# Altium schematic symbol library Schlib1.SchLib: 50 symbols (part 2 of 2)
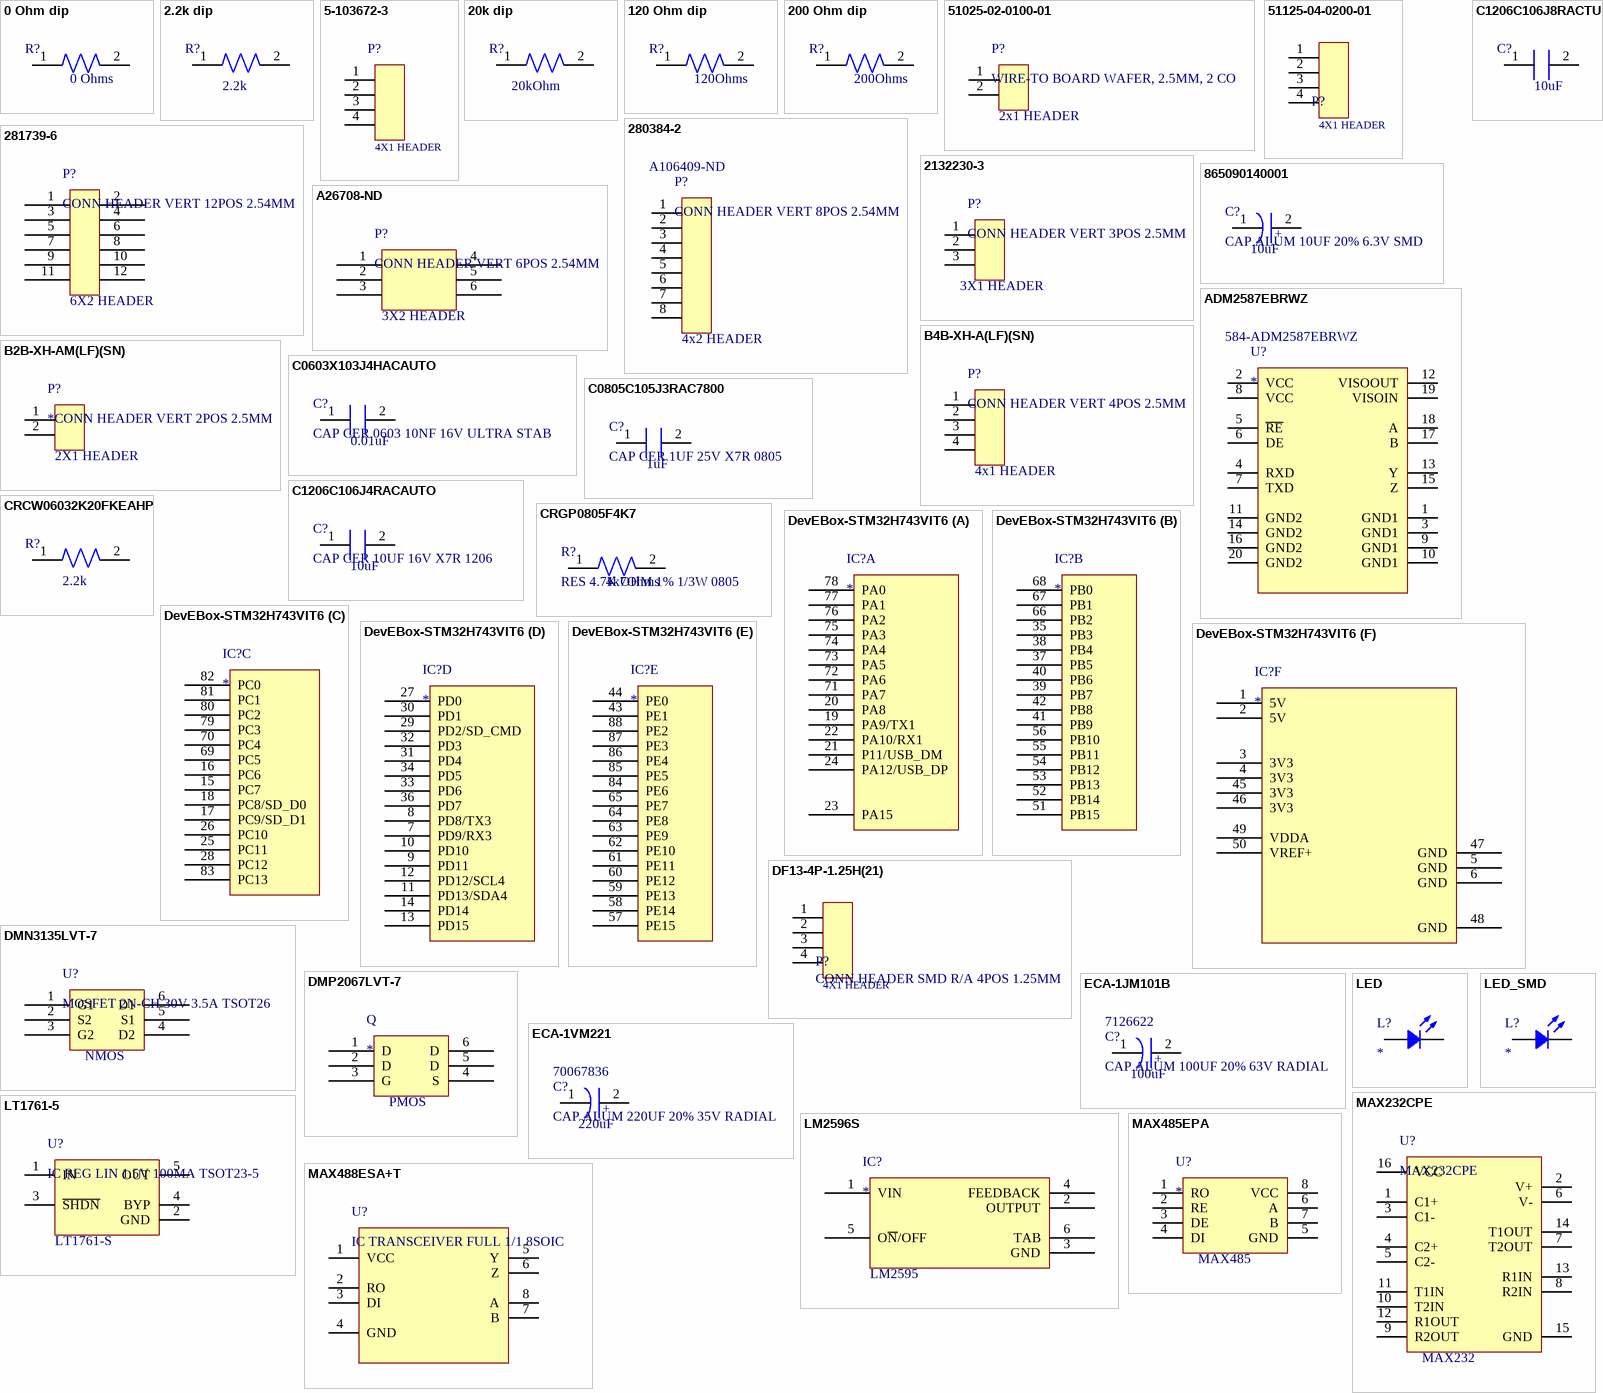
[diagram p3: symbols 0 Ohm dip to MAX488ESA+T]

## ECA-1VM221
designator C?, comment CAP ALUM 220UF 20% 35V RADIAL  Supplier Part Number 2: 70067836
Capacitor; Aluminum Electrolytic; Cap 220uF; Vol-Rtg 35V; Radial; nHg; Manufacturer: Panasonic; Manufacturer Part Number: ECA-1VM220; Dielectric Material: Aluminium; Capacitance: 22uF; Ripple Current: 95mA; Life (Hours): 2000Hour; Lead/Base Style: Straight; Leakage Current: 3uA; Dissipation Factor: 0.14%; Ripple Current (AC): 350mA; Polarity: Polar; Lead Diameter: 0.6mm; Supplier 1: Farnell; RoHS: Yes; Category: Aluminum Electrolytic Capacitors; Stock 1: 5363; Pricing 1: 1=0,37900, 5=0,31800, 10=0,25700, 25=0,25200 (EUR); Mount: Through Hole,PCB; Case/Package: Radial; Contact Plating: Tin; Min Operating Temperature: -40°C; Max Operating Temperature: 85°C; Tolerance: 20%; Termination: Radial; Packaging: Bulk; Package Quantity: 200; Voltage Rating: 35V; Voltage Rating (DC): 35V; Voltage: 35V; Series: M; Construction: RADIAL; Diameter: 5mm; Length: 11mm; Height: 11mm; Lead Pitch: 2mm; Height - Seated (Max): 0.472inch; Radiation Hardening: No; REACH SVHC: No SVHC; Lead Free: Lead Free; RoHS Compliant: Yes; ComponentLink1URL: https://datasheet.ciiva.com/11777/0900766b800274c2-11777874.pdf?src-supplier=RSComponents; ComponentLink1Description: https://datasheet.ciiva.com/11777/0900766b800274c2-11777874.pdf?src-supplier=RSComponents; ComponentLink2URL: https://datasheet.ciiva.com/15197/getdatasheetpartid-470870-15197994.pdf?src-supplier=Verical; ComponentLink2Description: https://datasheet.ciiva.com/15197/getdatasheetpartid-470870-15197994.pdf?src-supplier=Verical; ComponentLink3URL: https://datasheet.ciiva.com/14590/70067785-14590047.pdf?src-supplier=Allied+Electronics; ComponentLink3Description: https://datasheet.ciiva.com/14590/70067785-14590047.pdf?src-supplier=Allied+Electronics; ComponentLink4URL: https://datasheet.ciiva.com/2983/aba0000ce12-2983863.pdf?src-supplier=Avnet; ComponentLink4Description: https://datasheet.ciiva.com/2983/aba0000ce12-2983863.pdf?src-supplier=Avnet; ComponentLink5URL: https://datasheet.ciiva.com/15925/aba0000ce12-15925512.pdf?src-supplier=Onlinecomponents.com; ComponentLink5Description: https://datasheet.ciiva.com/15925/aba0000ce12-15925512.pdf?src-supplier=Onlinecomponents.com; ComponentLink6URL: https://datasheet.ciiva.com/30209/49aba0000ce12-30209319.pdf?src-supplier=Onlinecomponents.com; ComponentLink6Description: https://datasheet.ciiva.com/30209/49aba0000ce12-30209319.pdf?src-supplier=Onlinecomponents.com; ComponentLink7URL: https://datasheet.ciiva.com/17356/aba0000ce12-17356348.pdf?src-supplier=Avnet+Europe; ComponentLink7Description: https://datasheet.ciiva.com/17356/aba0000ce12-17356348.pdf?src-supplier=Avnet+Europe; ComponentLink8URL: https://datasheet.ciiva.com/91/eca-xxmspec-91375.pdf?src-supplier=Digi-Key; ComponentLink8Description: https://datasheet.ciiva.com/91/eca-xxmspec-91375.pdf?src-supplier=Digi-Key; Supplier Part Number 1: 9693645; Supplier 2: Allied Electronics; Stock 2: 19; Pricing 2: 1=0,16400 (USD); Number of Pins: 2; ComponentLink9URL: https://datasheet.ciiva.com/11777/0900766b800274c2-11777872.pdf?src-supplier=RSComponents; ComponentLink9Description: https://datasheet.ciiva.com/11777/0900766b800274c2-11777872.pdf?src-supplier=RSComponents; ComponentLink10URL: https://datasheet.ciiva.com/26341/441851-da-01-en-elko-eca1vm221-m-r-220myf-35v-85c-26341906.pdf?src-supplier=Conrad; ComponentLink10Description: https://datasheet.ciiva.com/26341/441851-da-01-en-elko-eca1vm221-m-r-220myf-35v-85c-26341906.pdf?src-supplier=Conrad; ComponentLink11URL: https://datasheet.ciiva.com/24023/aba0000ce12-465472-24023260.pdf?src-supplier=Mouser; ComponentLink11Description: https://datasheet.ciiva.com/24023/aba0000ce12-465472-24023260.pdf?src-supplier=Mouser; ComponentLink12URL: https://datasheet.ciiva.com/14590/70067785-14590042.pdf?src-supplier=Allied+Electronics; ComponentLink12Description: https://datasheet.ciiva.com/14590/70067785-14590042.pdf?src-supplier=Allied+Electronics; ComponentLink13URL: https://datasheet.ciiva.com/14601/70067785-14601242.pdf?src-supplier=Allied+Electronics; ComponentLink13Description: https://datasheet.ciiva.com/14601/70067785-14601242.pdf?src-supplier=Allied+Electronics; ComponentLink14URL: https://datasheet.ciiva.com/43485/aba0000ce12-43485334.pdf?src-supplier=Farnell; ComponentLink14Description: https://datasheet.ciiva.com/43485/aba0000ce12-43485334.pdf?src-supplier=Farnell; ComponentLink15URL: https://datasheet.ciiva.com/46387/1907780-46387398.pdf?src-supplier=Element14; ComponentLink15Description: https://datasheet.ciiva.com/46387/1907780-46387398.pdf?src-supplier=Element14; ComponentLink16URL: https://datasheet.ciiva.com/2983/aba0000ce12-2983864.pdf?src-supplier=Avnet; ComponentLink16Description: https://datasheet.ciiva.com/2983/aba0000ce12-2983864.pdf?src-supplier=Avnet; ComponentLink17URL: https://datasheet.ciiva.com/16426/aba0000ce12-16426383.pdf?src-supplier=Future+Electronics; ComponentLink17Description: https://datasheet.ciiva.com/16426/aba0000ce12-16426383.pdf?src-supplier=Future+Electronics; ComponentLink18URL: https://datasheet.ciiva.com/15166/getdatasheetpartid-178468-15166214.pdf?src-supplier=Verical; ComponentLink18Description: https://datasheet.ciiva.com/15166/getdatasheetpartid-178468-15166214.pdf?src-supplier=Verical; ComponentLink19URL: https://datasheet.ciiva.com/17356/aba0000ce12-17356350.pdf?src-supplier=Avnet+Europe; ComponentLink19Description: https://datasheet.ciiva.com/17356/aba0000ce12-17356350.pdf?src-supplier=Avnet+Europe
footprint ECA-1VM221
pins: 1, 2
text: +; 220uF

## LED
designator L?
footprint LED
pins: 1, 2

## LED_SMD
designator L?
footprint LED_SMD
pins: 1, 2

## LM2596S
designator IC?
SIMPLE SWITCHER® 4.5V to 40V, 3A Low Component Count Step-Down Regulator 5-DDPAK/TO-263; Manufacturer: TI National Semiconductor; Manufacturer Part Number: LM2596S-5.0/NOPB; Output Voltage: 5V; Switching Frequency: 173kHz; Number of Outputs: 1; Quiescent Current: 5mA; Output Type: Fixed; Efficiency: 80%; Supplier 1: Mouser; RoHS: Yes; Category: Power Supply Modules; Stock 1: 36; Pricing 1: 1=7,15000, 10=6,46000, 50=6,16000, 100=5,34000, 1000=5,34000, 10000=5,34000 (USD); Mount: Surface Mount; Case/Package: TO-263; Number of Pins: 5; Weight: 0.25lb; Contact Plating: Tin,Matte; Min Operating Temperature: -40°C; Max Operating Temperature: 125°C; Output Current: 3A; Packaging: Rail/Tube; Min Input Voltage: 4.5V; Max Output Current: 3A; Max Input Voltage: 40V; Operating Supply Voltage: 40V; Package Quantity: 45; Series: LM2596; Nominal Output Voltage: 5V; Length: 10.16mm; Width: 8.64mm; Height: 4.57mm; Radiation Hardening: No; Lead Free: Contains Lead; REACH SVHC: No SVHC; Supplier 2: Farnell; Stock 2: 2251; Pricing 2: 1=6,90000, 10=5,63000, 25=5,32000, 50=4,97000, 100=4,62000 (EUR); ComponentLink1Description: Designed By; ComponentLink1URL: Süeda KORKMAZ
footprint LM2596S
pins: 1 VIN, 2 OUTPUT, 3 GND, 4 FEEDBACK, 5 O~{N}/OFF, 6 TAB
text: LM2595

## LT1761-5
designator U?, comment IC REG LIN 1.5V 100MA TSOT23-5
LDO Regulator Pos 1.5V 0.1A 5-Pin TSOT-23 T/R; Manufacturer: Analog Devices / Linear Technology; Manufacturer Part Number: LT1761ES5-1.5#TRMPBF; Max Supply Voltage: 20V; Min Supply Voltage: 2.5V; Dropout Voltage: 300mV; Number of Outputs: 1; Min Input Voltage: 1.8V; Min Current Limit: 110mA; Polarity: Positive; Operating Supply Current: 20uA; Power Supply Rejection Ratio (PSRR): 65dB; Supplier 1: Digi-Key; RoHS: Yes; Category: Voltage Regulators - Linear; Stock 1: 1805; Pricing 1: 1=2,98000, 10=2,67400, 25=2,52800, 100=2,19100, 250=2,07864 (USD); Case/Package: SOT-23-5; Number of Pins: 5; Min Operating Temperature: -40°C; Max Operating Temperature: 125°C; Package Quantity: 1; Output Current: 100mA; Max Output Current: 100mA; Output Voltage: 1.5V; Packaging: Tape and Reel; Max Input Voltage: 20V; Number of Regulators: 1; Max Output Voltage: 1.5V; Termination: SMD/SMT; Series: -; REACH SVHC: No SVHC; Lead Free: Lead Free; RoHS Compliant: Yes; ComponentLink1URL: https://datasheet.ciiva.com/26905/lt1761es5-1-5-trmpbf-26905955.pdf?src-supplier=IIIC; ComponentLink1Description: https://datasheet.ciiva.com/26905/lt1761es5-1-5-trmpbf-26905955.pdf?src-supplier=IIIC; ComponentLink2URL: https://datasheet.ciiva.com/2041/2732-2041159.pdf?src-supplier=Digi-Key; ComponentLink2Description: https://datasheet.ciiva.com/2041/2732-2041159.pdf?src-supplier=Digi-Key; ComponentLink3URL: https://datasheet.ciiva.com/5698/1441932-5698263.pdf?src-supplier=Farnell; ComponentLink3Description: https://datasheet.ciiva.com/5698/1441932-5698263.pdf?src-supplier=Farnell; ComponentLink4URL: https://datasheet.ciiva.com/2041/2732-2041160.pdf?src-supplier=Digi-Key; ComponentLink4Description: https://datasheet.ciiva.com/2041/2732-2041160.pdf?src-supplier=Digi-Key; ComponentLink5URL: https://datasheet.ciiva.com/2041/2732-2041161.pdf?src-supplier=Digi-Key; ComponentLink5Description: https://datasheet.ciiva.com/2041/2732-2041161.pdf?src-supplier=Digi-Key; Supplier Part Number 1: LT1761ES5-1.5#TRMPBFCT-ND
footprint LT1761ES5-1.5#TRMPBF
pins: 1 IN, 2 GND, 3 ~{SHDN}, 4 BYP, 5 OUT
text: LT1761-S

## MAX232CPE
designator U?
MAX232 Series 120 kbps 5.5 V Through Hole RS-232 Transceiver - PDIP-16; Manufacturer: Maxim; Manufacturer Part Number: MAX232CPE+; Propagation Delay: 10us; Number of Transmitters: 2; Operating Supply Voltage: 5V; Min Supply Voltage: 4.5V; Max Supply Voltage: 5.5V; Operating Supply Current: 10mA; Number of Transceivers: 1; Supply Type: Single; Supplier 1: Farnell; RoHS: Yes; Category: RS-232 / RS-422 / RS-485 Interface ICs; Stock 1: 9660; Pricing 1: 1=4,80000, 10=3,86000, 25=3,63000, 50=3,48000, 100=3,32000, 250=3,29000, 500=3,24000 (EUR); Mount: Through Hole; Case/Package: PDIP; Number of Pins: 16; Weight: 0.056438oz; Contact Plating: Tin,Matte; Min Operating Temperature: 0°C; Max Operating Temperature: 70°C; Packaging: Rail/Tube; Package Quantity: 25; Number of Receivers: 2; Data Rate: 120Kbps; Interface: RS-232; Logic Function: Transceiver; Number of Drivers: 2; Type: Integrated Circuit (IC); Series: MAX232; Length: 19.43mm; Width: 7.87mm; Height: 4.45mm; Radiation Hardening: No; REACH SVHC: No SVHC; Lead Free: Lead Free; RoHS Compliant: Yes; ComponentLink1URL: https://datasheet.ciiva.com/22828/0900766b807c18c1-22828294.pdf?src-supplier=RSComponents; ComponentLink1Description: https://datasheet.ciiva.com/22828/0900766b807c18c1-22828294.pdf?src-supplier=RSComponents; ComponentLink2URL: https://datasheet.ciiva.com/29306/170049-da-01-en-ic-max232cpe-dip16-29306280.pdf?src-supplier=Conrad; ComponentLink2Description: https://datasheet.ciiva.com/29306/170049-da-01-en-ic-max232cpe-dip16-29306280.pdf?src-supplier=Conrad; ComponentLink3URL: https://datasheet.ciiva.com/26833/max232cpe-26833420.pdf?src-supplier=IIIC; ComponentLink3Description: https://datasheet.ciiva.com/26833/max232cpe-26833420.pdf?src-supplier=IIIC; ComponentLink4URL: https://datasheet.ciiva.com/26833/max232cpe-26833436.pdf?src-supplier=IIIC; ComponentLink4Description: https://datasheet.ciiva.com/26833/max232cpe-26833436.pdf?src-supplier=IIIC; ComponentLink5URL: https://datasheet.ciiva.com/18410/70157118-18410440.pdf?src-supplier=Allied+Electronics; ComponentLink5Description: https://datasheet.ciiva.com/18410/70157118-18410440.pdf?src-supplier=Allied+Electronics; ComponentLink6URL: https://datasheet.ciiva.com/3028/max220-max249-3028373.pdf?src-supplier=Avnet; ComponentLink6Description: https://datasheet.ciiva.com/3028/max220-max249-3028373.pdf?src-supplier=Avnet
footprint MAX232CPE
pins: 1 C1+, 2 V+, 3 C1-, 4 C2+, 5 C2-, 6 V-, 7 T2OUT, 8 R2IN, 9 R2OUT, 10 T2IN, 11 T1IN, 12 R1OUT, 13 R1IN, 14 T1OUT, 15 GND, 16 VCC

## MAX485EPA
designator U?
Single Transmitter/Receiver RS-422/RS-485 8-Pin PDIP N; Manufacturer: Maxim; Manufacturer Part Number: MAX485EPA+; Number of Transmitters: 1; Operating Supply Voltage: 5V; Logic Function: Transceiver; Data Rate: 2.5Mbps; Operating Supply Current: 500uA; Interface: RS-422,RS-485; Min Supply Voltage: 4.75V; Max Supply Voltage: 5.25V; Simplex/Duplex: Half Duplex; Designed By: Süeda KORKMAZ; Supplier 1: Farnell; RoHS: Yes; Category: RS-232 / RS-422 / RS-485 Interface ICs; Stock 1: 298; Pricing 1: 1=5,00000, 10=4,04000, 25=3,95000, 50=3,86000 (EUR); Mount: Through Hole; Case/Package: PDIP; Number of Pins: 8; Weight: 0.032805oz; Contact Plating: Tin,Matte; Min Operating Temperature: -40°C; Max Operating Temperature: 85°C; Packaging: Rail/Tube; Package Quantity: 50; Number of Receivers: 1; Number of Drivers: 1; Number of Transceivers: 1; Series: -; Length: 9.91mm; Width: 7.87mm; Height: 2.03mm; Radiation Hardening: No; REACH SVHC: Unknown; Lead Free: Lead Free; RoHS Compliant: Yes; ComponentLink1URL: https://datasheet.ciiva.com/30478/0900766b811dea1f-30478293.pdf?src-supplier=RSComponents; ComponentLink1Description: https://datasheet.ciiva.com/30478/0900766b811dea1f-30478293.pdf?src-supplier=RSComponents; ComponentLink2URL: https://datasheet.ciiva.com/29306/170075-da-01-en-ic-max485epa-dip8-29306150.pdf?src-supplier=Conrad; ComponentLink2Description: https://datasheet.ciiva.com/29306/170075-da-01-en-ic-max485epa-dip8-29306150.pdf?src-supplier=Conrad; ComponentLink3URL: https://datasheet.ciiva.com/26835/max485epa-26835690.pdf?src-supplier=IIIC; ComponentLink3Description: https://datasheet.ciiva.com/26835/max485epa-26835690.pdf?src-supplier=IIIC; ComponentLink4URL: https://datasheet.ciiva.com/3029/max1487-max491-3029663.pdf?src-supplier=Avnet; ComponentLink4Description: https://datasheet.ciiva.com/3029/max1487-max491-3029663.pdf?src-supplier=Avnet; ComponentLink5URL: https://datasheet.ciiva.com/16489/max1487-max491-16489861.pdf?src-supplier=Avnet+Asia; ComponentLink5Description: https://datasheet.ciiva.com/16489/max1487-max491-16489861.pdf?src-supplier=Avnet+Asia; ComponentLink6URL: https://datasheet.ciiva.com/1713/max1487-max491-1713276.pdf?src-supplier=Digi-Key; ComponentLink6Description: https://datasheet.ciiva.com/1713/max1487-max491-1713276.pdf?src-supplier=Digi-Key
footprint MAX485EPA
pins: 1 RO, 2 RE, 3 DE, 4 DI, 5 GND, 6 A, 7 B, 8 VCC
text: MAX485

## MAX488ESA+T
designator U?, comment IC TRANSCEIVER FULL 1/1 8SOIC
Single Transmitter/Receiver RS-422/RS-485 8-Pin SOIC N T/R / IC TXRX RS485/RS422 8-SOIC; Manufacturer: Maxim; Manufacturer Part Number: MAX488ESA+T; Number of Transmitters: 1; Operating Supply Voltage: 5V; Data Rate: 250Kbps; Logic Function: Transceiver,Receiver; Simplex/Duplex: Full Duplex; Receiver Hysteresis: 70mV; Nominal Supply Current: 250uA; ESD Protection: No; Supplier 1: Mouser; RoHS: Yes; Category: Interface ICs; Stock 1: 513; Pricing 1: 1=3,91000, 10=3,50000, 50=3,30000, 100=3,02000, 1000=2,88000, 10000=2,78000 (USD); Mount: Surface Mount; Case/Package: SOIC; Number of Pins: 8; Contact Plating: Tin,Matte; Min Operating Temperature: -40°C; Max Operating Temperature: 85°C; Packaging: Tape and Reel; Package Quantity: 2500; Number of Receivers: 1; Number of Drivers: 1; Number of Transceivers: 1; Series: -; Supply Current: 250uA; Radiation Hardening: No; RoHS Compliant: Yes; Lead Free: Lead Free; ComponentLink1URL: https://datasheet.ciiva.com/26835/max488esa-t-26835093.pdf?src-supplier=IIIC; ComponentLink1Description: https://datasheet.ciiva.com/26835/max488esa-t-26835093.pdf?src-supplier=IIIC; ComponentLink2URL: https://datasheet.ciiva.com/1774/max1487-max491-1774679.pdf?src-supplier=Digi-Key; ComponentLink2Description: https://datasheet.ciiva.com/1774/max1487-max491-1774679.pdf?src-supplier=Digi-Key; ComponentLink3URL: https://datasheet.ciiva.com/12261/max1487-max491-96074-12261739.pdf?src-supplier=Mouser; ComponentLink3Description: https://datasheet.ciiva.com/12261/max1487-max491-96074-12261739.pdf?src-supplier=Mouser; ComponentLink4URL: https://datasheet.ciiva.com/3030/max1487-max491-3030094.pdf?src-supplier=Avnet; ComponentLink4Description: https://datasheet.ciiva.com/3030/max1487-max491-3030094.pdf?src-supplier=Avnet; ComponentLink5URL: https://datasheet.ciiva.com/16640/max1487-max491-16640622.pdf?src-supplier=Avnet+Europe; ComponentLink5Description: https://datasheet.ciiva.com/16640/max1487-max491-16640622.pdf?src-supplier=Avnet+Europe
footprint MAX488ESA+T
pins: 1 VCC, 2 RO, 3 DI, 4 GND, 5 Y, 6 Z, 7 B, 8 A

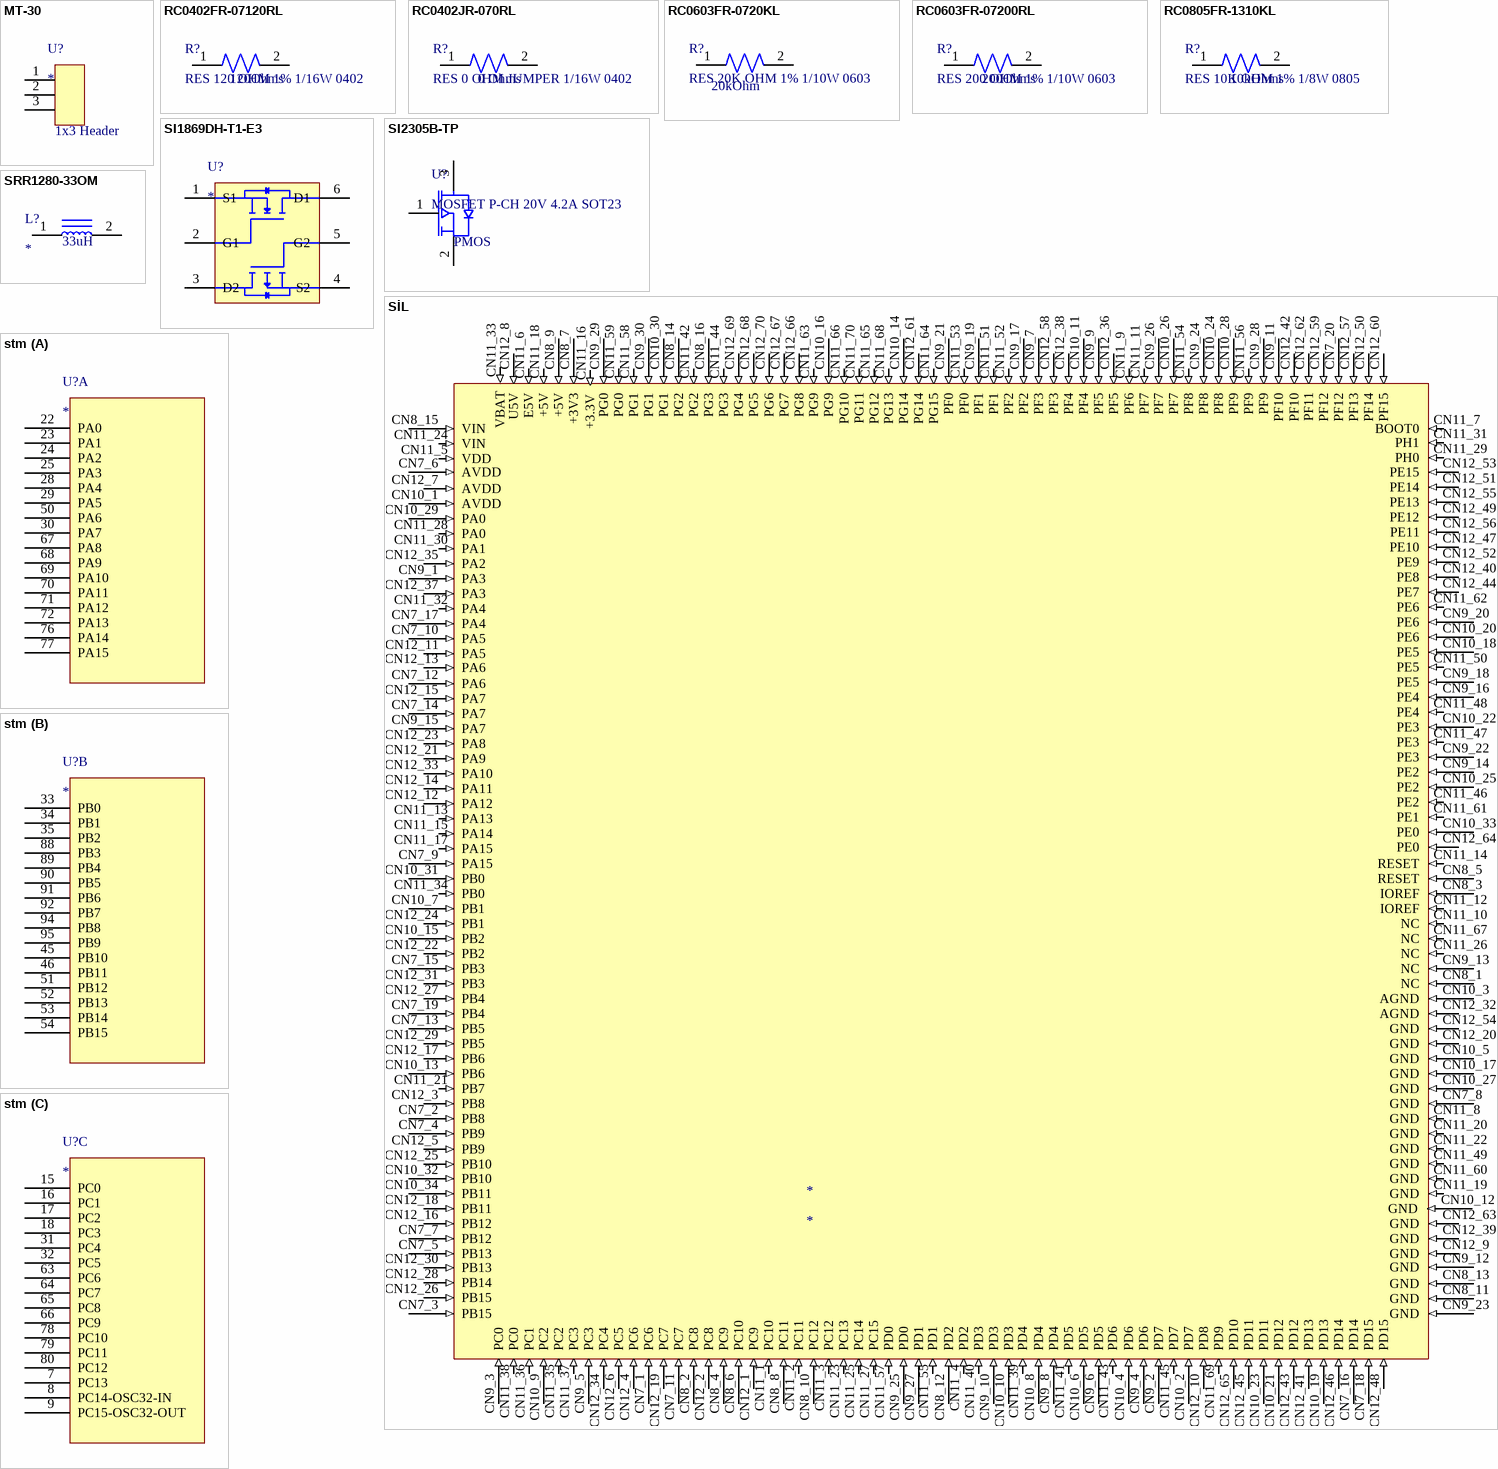
[diagram p1: symbols MT-30 to stm]

## MT-30
designator U?
footprint MT-30
pins: 1, 2, 3
text: 1x3 Header

## RC0402FR-07120RL
designator R?, comment RES 120 OHM 1% 1/16W 0402
Res General Purpose Thick Film 0402 120 Ohm 1% 1/16W ±100ppm/°C Molded Paper T/R; Manufacturer: Yageo; Manufacturer Part Number: RC0402FR-07120RL; Resistance: 120R; Power Rating: 62.5mW; Voltage Rating: 50V; Max Power Dissipation: 63mW; Supplier 1: Digi-Key; RoHS: Yes; Category: Chip SMD Resistors; Stock 1: 1648497; Pricing 1: 1=0,10000, 10=0,01600, 100=0,00660, 1000=0,00299, 2500=0,00259, 5000=0,00214 (USD); Case/Package: 0402; Case Code (Imperial): 0402; Case Code (Metric): 1005; Size Code: 0402; Min Operating Temperature: -55°C; Max Operating Temperature: 155°C; Package Quantity: 1; Tolerance: 1%; Packaging: Tape and Reel; Termination: SMD/SMT; Resistor Type: Thick Film; Number of Terminations: 2; Temperature Coefficient: 100ppm/°C; Features: Moisture Resistant; Series: RC; Resistance Tolerance: 1%; Construction: Rectangular; Technology: THICK FILM; Length: 1mm; Width: 0.02inch; Height: 0.016inch; Depth: 0.5mm; REACH SVHC: No SVHC; Military Standard: Not; Lead Free: Lead Free; RoHS Compliant: Yes; ComponentLink1URL: https://datasheet.ciiva.com/11808/0900766b80c66297-11808427.pdf?src-supplier=RSComponents; ComponentLink1Description: https://datasheet.ciiva.com/11808/0900766b80c66297-11808427.pdf?src-supplier=RSComponents; ComponentLink2URL: https://datasheet.ciiva.com/7849/1018594-7849830.pdf?src-supplier=Element14; ComponentLink2Description: https://datasheet.ciiva.com/7849/1018594-7849830.pdf?src-supplier=Element14; ComponentLink3URL: https://datasheet.ciiva.com/12667/pyu-rc0402-51-rohs-l-6-r-12667958.pdf?src-supplier=Mouser; ComponentLink3Description: https://datasheet.ciiva.com/12667/pyu-rc0402-51-rohs-l-6-r-12667958.pdf?src-supplier=Mouser; ComponentLink4URL: https://datasheet.ciiva.com/7849/1018594-7849831.pdf?src-supplier=Element14; ComponentLink4Description: https://datasheet.ciiva.com/7849/1018594-7849831.pdf?src-supplier=Element14; ComponentLink5URL: https://datasheet.ciiva.com/2453/pyu-r-int-thick-7-2453469.pdf?src-supplier=Digi-Key; ComponentLink5Description: https://datasheet.ciiva.com/2453/pyu-r-int-thick-7-2453469.pdf?src-supplier=Digi-Key; ComponentLink6URL: https://datasheet.ciiva.com/2453/pyu-r-int-thick-7-2453470.pdf?src-supplier=Digi-Key; ComponentLink6Description: https://datasheet.ciiva.com/2453/pyu-r-int-thick-7-2453470.pdf?src-supplier=Digi-Key; ComponentLink7URL: https://datasheet.ciiva.com/2453/pyu-r-int-thick-7-2453471.pdf?src-supplier=Digi-Key; ComponentLink7Description: https://datasheet.ciiva.com/2453/pyu-r-int-thick-7-2453471.pdf?src-supplier=Digi-Key; ComponentLink8URL: https://datasheet.ciiva.com/17423/pyu-rc0402-51-rohs-l-6-r-17423999.pdf?src-supplier=Future+Electronics; ComponentLink8Description: https://datasheet.ciiva.com/17423/pyu-rc0402-51-rohs-l-6-r-17423999.pdf?src-supplier=Future+Electronics; Supplier Part Number 1: 311-120LRCT-ND
footprint RC0402FR-07120RL
pins: 1, 2
text: 120Ohms

## RC0402JR-070RL
designator R?, comment RES 0 OHM JUMPER 1/16W 0402
Res Jumper Thick Film 0402 0 Ohm 5% 1/16W Molded SMD Paper T/R; Manufacturer: Yageo; Manufacturer Part Number: RC0402JR-070RL; Resistance: 0mR; Power Rating: 62.5mW; Voltage Rating: 50V; Max Power Dissipation: 63mW; Temperature Coefficient: 200ppm/°C; Supplier 1: Digi-Key; RoHS: Yes; Category: Chip SMD Resistors; Stock 1: 24575445; Pricing 1: 1=0,10000, 10=0,01200, 25=0,00840, 50=0,00640, 100=0,00470, 250=0,00360, 500=0,00288, 1000=0,00212, 5000=0,00152 (USD); Case/Package: 0402; Contact Plating: Tin,Matte; Case Code (Metric): 1005; Case Code (Imperial): 0402; Size Code: 0402; Min Operating Temperature: -55°C; Max Operating Temperature: 155°C; Resistor Type: Thick Film; Packaging: Tape and Reel; Tolerance: 5%; Number of Terminations: 2; Termination: SMD/SMT; Features: Moisture Resistant; Series: RC; Package Quantity: 1; Technology: THICK FILM; Resistance Tolerance: 5%; Construction: Rectangular; Length: 1mm; Width: 0.02inch; Height: 0.016inch; Depth: 0.5mm; Radiation Hardening: No; Lead Free: Lead Free; REACH SVHC: Unknown; RoHS Compliant: Yes; Military Standard: Not; Supplier Part Number 1: 311-0.0JRCT-ND
footprint RC0402JR-070RL
pins: 1, 2
text: 0 Ohms

## RC0603FR-0720KL
designator R?, comment RES 20K OHM 1% 1/10W 0603
Res General Purpose Thick Film 0603 20K Ohm 1% 1/10W ±100ppm/°C Molded SMD Paper T/R; Manufacturer: Yageo; Manufacturer Part Number: RC0603FR-0720KL; Resistance: 20kR; Voltage Rating (DC): 50V; Power Rating: 100mW; Supplier 1: Digi-Key; RoHS: Yes; Category: Chip SMD Resistors; Stock 1: 2535842; Pricing 1: 1=0,10000, 10=0,02400, 100=0,00970, 1000=0,00436, 2500=0,00378 (USD); Case/Package: 0603; Number of Pins: 2; Case Code (Imperial): 0603; Case Code (Metric): 1608; Size Code: 0603; Min Operating Temperature: -55°C; Max Operating Temperature: 155°C; Tolerance: 1%; Resistor Type: Thick Film; Temperature Coefficient: 100ppm/°C; Packaging: Tape and Reel; Voltage Rating: 50V; Package Quantity: 1; Termination: SMD/SMT; Number of Terminations: 2; Max Power Dissipation: 100mW; Features: Moisture Resistant; Series: RC; Technology: THICK FILM; Construction: Rectangular; Resistance Tolerance: 1%; Length: 0.063inch; Width: 0.031inch; Height: 0.022inch; Depth: 0.8mm; Lead Free: Lead Free; RoHS Compliant: Yes; REACH SVHC: No SVHC; Military Standard: Not; ComponentLink1URL: https://datasheet.ciiva.com/11808/0900766b80f96399-11808275.pdf?src-supplier=RSComponents; ComponentLink1Description: https://datasheet.ciiva.com/11808/0900766b80f96399-11808275.pdf?src-supplier=RSComponents; ComponentLink2URL: https://datasheet.ciiva.com/22747/443971-22747525.pdf?src-supplier=Element14; ComponentLink2Description: https://datasheet.ciiva.com/22747/443971-22747525.pdf?src-supplier=Element14; ComponentLink3URL: https://datasheet.ciiva.com/2453/pyu-r-int-thick-7-2453910.pdf?src-supplier=Digi-Key; ComponentLink3Description: https://datasheet.ciiva.com/2453/pyu-r-int-thick-7-2453910.pdf?src-supplier=Digi-Key; ComponentLink4URL: https://datasheet.ciiva.com/2453/pyu-r-int-thick-7-2453911.pdf?src-supplier=Digi-Key; ComponentLink4Description: https://datasheet.ciiva.com/2453/pyu-r-int-thick-7-2453911.pdf?src-supplier=Digi-Key; ComponentLink5URL: https://datasheet.ciiva.com/2453/pyu-r-int-thick-7-2453912.pdf?src-supplier=Digi-Key; ComponentLink5Description: https://datasheet.ciiva.com/2453/pyu-r-int-thick-7-2453912.pdf?src-supplier=Digi-Key; Supplier Part Number 1: 311-20.0KHRCT-ND
footprint RC0603FR-0720KL
pins: 1, 2
text: 20kOhm

## RC0603FR-07200RL
designator R?, comment RES 200 OHM 1% 1/10W 0603
Res General Purpose Thick Film 0603 200 Ohm 1% 1/10W ±100ppm/°C Molded SMD Paper T/R; Manufacturer: Yageo; Manufacturer Part Number: RC0201JR-0710KL; Resistance: 10kR; Tolerance: 5%; Temperature Coefficient: 200ppm/°C; Power Rating: 50mW; Voltage Rating: 25V; Working Voltage: 75V; Supplier 1: Digi-Key; RoHS: Yes; Category: Chip SMD Resistors; Stock 1: 588676; Pricing 1: 1=0,10000, 10=0,02900, 100=0,01190, 1000=0,00536, 2500=0,00466, 5000=0,00385 (USD); Case/Package: 0201; Contact Plating: Tin,Matte; Case Code (Imperial): 0201; Case Code (Metric): 0603; Size Code: 0201; Min Operating Temperature: -55°C; Max Operating Temperature: 125°C; Resistor Type: Thick Film; Packaging: Tape and Reel; Termination: SMD/SMT; Voltage Rating (DC): 25V; Features: Moisture Resistant; Series: RC; Max Power Dissipation: 50mW; Number of Terminations: 2; Resistance Tolerance: 5%; Construction: Rectangular; Length: 0.6mm; Depth: 0.3mm; Radiation Hardening: No; REACH SVHC: Unknown; Military Standard: Not; Lead Free: Lead Free; RoHS Compliant: Yes; ComponentLink1URL: https://datasheet.ciiva.com/8891/pyu-rc0201-51-rohs-l-8-8891388.pdf?src-supplier=Avnet; ComponentLink1Description: https://datasheet.ciiva.com/8891/pyu-rc0201-51-rohs-l-8-8891388.pdf?src-supplier=Avnet; ComponentLink2URL: https://datasheet.ciiva.com/7672/1563626-7672253.pdf?src-supplier=Element14; ComponentLink2Description: https://datasheet.ciiva.com/7672/1563626-7672253.pdf?src-supplier=Element14; ComponentLink3URL: https://datasheet.ciiva.com/28405/pyu-rc0201-51-rohs-l-8-28405613.pdf?src-supplier=Avnet+Europe; ComponentLink3Description: https://datasheet.ciiva.com/28405/pyu-rc0201-51-rohs-l-8-28405613.pdf?src-supplier=Avnet+Europe; ComponentLink4URL: https://datasheet.ciiva.com/7672/1563626-7672254.pdf?src-supplier=Element14; ComponentLink4Description: https://datasheet.ciiva.com/7672/1563626-7672254.pdf?src-supplier=Element14; ComponentLink5URL: https://datasheet.ciiva.com/7660/1421516-7660810.pdf?src-supplier=Element14; ComponentLink5Description: https://datasheet.ciiva.com/7660/1421516-7660810.pdf?src-supplier=Element14; ComponentLink6URL: https://datasheet.ciiva.com/16856/pyu-rc0201-51-rohs-l-8-16856011.pdf?src-supplier=Avnet+Europe; ComponentLink6Description: https://datasheet.ciiva.com/16856/pyu-rc0201-51-rohs-l-8-16856011.pdf?src-supplier=Avnet+Europe; ComponentLink7URL: https://datasheet.ciiva.com/46391/1421516-46391291.pdf?src-supplier=Element14; ComponentLink7Description: https://datasheet.ciiva.com/46391/1421516-46391291.pdf?src-supplier=Element14; Supplier Part Number 1: 311-10KNCT-ND; Supplier 2: Digi-Key; Stock 2: 1724081; Pricing 2: 1=0,10000, 10=0,02400, 100=0,00970, 1000=0,00436, 2500=0,00378 (USD); Number of Pins: 2; Package Quantity: 5000; Technology: THICK FILM; Width: 0.8mm; Height: 0.45mm; ComponentLink8URL: https://datasheet.ciiva.com/11809/0900766b80f96399-11809240.pdf?src-supplier=RSComponents; ComponentLink8Description: https://datasheet.ciiva.com/11809/0900766b80f96399-11809240.pdf?src-supplier=RSComponents; ComponentLink9URL: https://datasheet.ciiva.com/46395/443971-46395029.pdf?src-supplier=Element14; ComponentLink9Description: https://datasheet.ciiva.com/46395/443971-46395029.pdf?src-supplier=Element14; Supplier Part Number 2: 311-200HRCT-ND
footprint RC0603FR-07200RL
pins: 1, 2
text: 200Ohms

## RC0805FR-1310KL
designator R?, comment RES 10K OHM 1% 1/8W 0805
Res Thick Film 2.0 x 1.2 mm 10K Ohm 1% 0.125W(1/8W) 100ppm/ C Molded SMD Paper T/R; Manufacturer: Yageo; Manufacturer Part Number: RC0805FR-1310KL; Resistance: 10kR; Power Rating: 125mW; Voltage Rating: 150V; Temperature Coefficient: 100ppm/°C; Supplier 1: Digi-Key; RoHS: Yes; Category: Chip SMD Resistors; Stock 1: 79608; Pricing 1: 1=0,10000, 10=0,04200, 100=0,01690, 1000=0,00759, 2500=0,00659, 5000=0,00544 (USD); Case/Package: 0805; Number of Pins: 2; Case Code (Imperial): 0805; Case Code (Metric): 2012; Contact Plating: Tin,Matte,Lead; Min Operating Temperature: -55°C; Max Operating Temperature: 155°C; Tolerance: 1%; Packaging: Tape and Reel; Resistor Type: Thick Film; Termination: SMD/SMT; Voltage Rating (DC): 150V; Series: RC; Resistance Tolerance: 1%; Radiation Hardening: No; REACH SVHC: No SVHC; Lead Free: Lead Free; RoHS Compliant: Yes; ComponentLink1URL: http://www.mouser.com/ds/2/447/Yageo_08112016_RC0805-968729.pdf?src-supplier=Mouser; ComponentLink1Description: http://www.mouser.com/ds/2/447/Yageo_08112016_RC0805-968729.pdf?src-supplier=Mouser; ComponentLink2URL: http://components.arrow.com/part/dataview/0323_00200993?src-supplier=Arrow+Europe; ComponentLink2Description: http://components.arrow.com/part/dataview/0323_00200993?src-supplier=Arrow+Europe; ComponentLink3URL: http://www.farnell.com/datasheets/2167052.pdf?src-supplier=Farnell; ComponentLink3Description: http://www.farnell.com/datasheets/2167052.pdf?src-supplier=Farnell; ComponentLink4URL: http://www.farnell.com/datasheets/2167052.pdf?src-supplier=Element14; ComponentLink4Description: http://www.farnell.com/datasheets/2167052.pdf?src-supplier=Element14; ComponentLink5URL: http://www.farnell.com/datasheets/2167052.pdf?src-supplier=Newark; ComponentLink5Description: http://www.farnell.com/datasheets/2167052.pdf?src-supplier=Newark; ComponentLink6URL: http://www.yageo.com/pdf/PYu-RC0805_51_RoHS_L_4.pdf?src-supplier=Avnet; ComponentLink6Description: http://www.yageo.com/pdf/PYu-RC0805_51_RoHS_L_4.pdf?src-supplier=Avnet; ComponentLink7URL: http://www.yageo.com/documents/recent/PYu-RC0805_51_RoHS_L_5.pdf?src-supplier=Avnet+Europe; ComponentLink7Description: http://www.yageo.com/documents/recent/PYu-RC0805_51_RoHS_L_5.pdf?src-supplier=Avnet+Europe; Supplier Part Number 1: 13-RC0805FR-1310KLCT-ND
footprint RC0805FR-1310KL
pins: 1, 2
text: 10kOhms

## SI1869DH-T1-E3
designator U?
Si1869DH Series 20 V 1.2 A Surface Mount Load Switch with Level-Shift - SC-70-6; Manufacturer: Vishay Siliconix; Manufacturer Part Number: SI1869DH-T1-E3; Number of Outputs: 1; Current Rating: 1.2A; Interface: On/Off; Drain to Source Voltage (Vdss): 20V; Drain to Source Resistance: 165mR; Gate to Source Voltage (Vgs): 1.8V; Max Power Dissipation: 1W; Number of Elements: 2; Output Configuration: High Side; Polarity: N-CHANNEL,P-CHANNEL; Supplier 1: Mouser; RoHS: Yes; Category: MOSFETs; Stock 1: 417; Pricing 1: 1=0,62000, 10=0,54500, 50=0,54500, 100=0,41800, 500=0,33000, 1000=0,26400, 3000=0,23900, 6000=0,21700, 9000=0,21000, 10000=0,21000 (USD); Mount: Surface Mount; Case/Package: SC; Number of Pins: 6; Weight: 0.000988oz; Min Operating Temperature: -55°C; Max Operating Temperature: 150°C; Package Quantity: 1; Packaging: Tape and Reel; Max Output Current: 1.2A; Continuous Drain Current (ID): 1.2A; Power Dissipation: 1W; Number of Channels: 2; Series: SI1; Rated Current-Max: 1.2A; Radiation Hardening: No; REACH SVHC: No SVHC; Lead Free: Lead Free; RoHS Compliant: Yes; ComponentLink1URL: https://datasheet.ciiva.com/1962/si1869dh-1962032.pdf?src-supplier=Digi-Key; ComponentLink1Description: https://datasheet.ciiva.com/1962/si1869dh-1962032.pdf?src-supplier=Digi-Key; ComponentLink2URL: https://datasheet.ciiva.com/4439/si1869dh-244642-4439851.pdf?src-supplier=Mouser; ComponentLink2Description: https://datasheet.ciiva.com/4439/si1869dh-244642-4439851.pdf?src-supplier=Mouser; ComponentLink3URL: https://datasheet.ciiva.com/16291/si1869dh-t1-e3-16291678.pdf?src-supplier=Future+Electronics; ComponentLink3Description: https://datasheet.ciiva.com/16291/si1869dh-t1-e3-16291678.pdf?src-supplier=Future+Electronics; ComponentLink4URL: https://datasheet.ciiva.com/1962/si1869dh-1962033.pdf?src-supplier=Digi-Key; ComponentLink4Description: https://datasheet.ciiva.com/1962/si1869dh-1962033.pdf?src-supplier=Digi-Key; ComponentLink5URL: https://datasheet.ciiva.com/3048/si1869dh-3048164.pdf?src-supplier=Avnet; ComponentLink5Description: https://datasheet.ciiva.com/3048/si1869dh-3048164.pdf?src-supplier=Avnet; ComponentLink6URL: https://datasheet.ciiva.com/1253/690103-1253366.pdf?src-supplier=Newark; ComponentLink6Description: https://datasheet.ciiva.com/1253/690103-1253366.pdf?src-supplier=Newark; ComponentLink7URL: https://datasheet.ciiva.com/7691/si1869dh-7691848.pdf?src-supplier=Element14; ComponentLink7Description: https://datasheet.ciiva.com/7691/si1869dh-7691848.pdf?src-supplier=Element14; ComponentLink8URL: https://datasheet.ciiva.com/25889/si1869dh-25889388.pdf?src-supplier=Avnet+Europe; ComponentLink8Description: https://datasheet.ciiva.com/25889/si1869dh-25889388.pdf?src-supplier=Avnet+Europe; ComponentLink9URL: https://datasheet.ciiva.com/1962/si1869dh-1962031.pdf?src-supplier=Digi-Key; ComponentLink9Description: https://datasheet.ciiva.com/1962/si1869dh-1962031.pdf?src-supplier=Digi-Key
footprint SI1869DH-T1-E3
pins: 1 S1, 2 G1, 3 D2, 4 S2, 5 G2, 6 D1

## SI2305B-TP
designator U?, comment MOSFET P-CH 20V 4.2A SOT23
P-Channel 20 V 4.2 A 60 mOhm Enhancement Mode Field Effect Transistor - SOT-23; Manufacturer: MCC; Manufacturer Part Number: SI2305B-TP; Rds On Max: 60mR; Input Capacitance: 740pF; Max Power Dissipation: 1.4W; Supplier 1: Digi-Key; RoHS: Yes; Stock 1: 26844; Pricing 1: 1=0,43000, 10=0,32200, 100=0,20060, 500=0,13728, 1000=0,10560 (USD); Mount: Surface Mount; Case/Package: SOT-23; Min Operating Temperature: -55°C; Max Operating Temperature: 150°C; Packaging: Tape and Reel; Drain to Source Voltage (Vdss): 20V; Continuous Drain Current (ID): 4.2A; RoHS Compliant: Yes; ComponentLink1URL: http://www.mccsemi.com/up_pdf/SI2305B(SOT-23)-A.pdf?src-supplier=Digi-Key; ComponentLink1Description: http://www.mccsemi.com/up_pdf/SI2305B(SOT-23)-A.pdf?src-supplier=Digi-Key
pins: 1, 2, 3
text: PMOS

## SİL
designator *
pins: CN7_1 PC6 (in), CN7_2 PB8 (in), CN7_3 PB15 (in), CN7_4 PB9 (in), CN7_5 PB13 (in), CN7_6 AVDD (in), CN7_7 PB12 (in), CN7_8 GND (in), CN7_9 PA15 (in), CN7_10 PA5 (in), CN7_11 PC7 (in), CN7_12 PA6 (in), CN7_13 PB5 (in), CN7_14 PA7 (in), CN7_15 PB3 (in), CN7_16 PD14 (in), CN7_17 PA4 (in), CN7_18 PD15 (in), CN7_19 PB4 (in), CN7_20 PF12 (in), CN8_1 NC (in), CN8_2 PC8 (in), CN8_3 IOREF (in), CN8_4 PC9 (in), CN8_5 RESET (in), CN8_6 PC10 (in), CN8_7 +3V3 (in), CN8_8 PC11 (in), CN8_9 +5V (in), CN8_10 PC12 (in), CN8_11 GND (in), CN8_12 PD2 (in), CN8_13 GND (in), CN8_14 PG2 (in), CN8_15 VIN (in), CN8_16 PG3 (in), CN9_1 PA3 (in), CN9_2 PD7 (in), CN9_3 PC0 (in), CN9_4 PD6 (in), CN9_5 PC3 (in), CN9_6 PD5 (in), CN9_7 PF3 (in), CN9_8 PD4 (in), CN9_9 PF5 (in), CN9_10 PD3 (in), CN9_11 PF10 (in), CN9_12 GND (in), CN9_13 NC (in), CN9_14 PE2 (in), CN9_15 PA7 (in), CN9_16 PE4 (in), CN9_17 PF2 (in), CN9_18 PE5 (in), CN9_19 PF1 (in), CN9_20 PE6 (in), CN9_21 PF0 (in), CN9_22 PE3 (in), CN9_23 GND (in), CN9_24 PF8 (in), CN9_25 PD0 (in), CN9_26 PF7 (in), CN9_27 PD1 (in), CN9_28 PF9 (in), CN9_29 PG0 (in), CN9_30 PG1 (in), CN10_1 AVDD (in), CN10_2 PD7 (in), CN10_3 AGND (in), CN10_4 PD6 (in), CN10_5 GND (in), CN10_6 PD5 (in), CN10_7 PB1 (in), CN10_8 PD4 (in), CN10_9 PC2 (in), CN10_10 PD3 (in), CN10_11 PF4 (in), CN10_12 GND (in), CN10_13 PB6 (in), CN10_14 PG14 (in), CN10_15 PB2 (in), CN10_16 PG9 (in), CN10_17 GND (in), CN10_18 PE5 (in), CN10_19 PD13 (in), CN10_20 PE6 (in), CN10_21 PD12 (in), CN10_22 PE3 (in), CN10_23 PD11 (in), CN10_24 PF8 (in), CN10_25 PE2 (in), CN10_26 PF7 (in), CN10_27 GND (in), CN10_28 PF9 (in), CN10_29 PA0 (in), CN10_30 PG1 (in), CN10_31 PB0 (in), CN10_32 PB10 (in), CN10_33 PE0 (in), CN10_34 PB11 (in), CN11_1 PC10 (in), CN11_2 PC11 (in), CN11_3 PC12 (in), CN11_4 PD2 (in), CN11_5 VDD (in), CN11_6 E5V (in), CN11_7 BOOT0 (in), CN11_8 GND (in), CN11_9 PF6 (in), CN11_10 NC (in), CN11_11 PF7 (in), CN11_12 IOREF (in), CN11_13 PA13 (in), CN11_14 RESET (in), CN11_15 PA14 (in), CN11_16 +3.3V (in), CN11_17 PA15 (in), CN11_18 +5V (in), CN11_19 GND (in), CN11_20 GND (in), CN11_21 PB7 (in), CN11_22 GND (in), CN11_23 PC13 (in), CN11_24 VIN (in), CN11_25 PC14 (in), CN11_26 NC (in), CN11_27 PC15 (in), CN11_28 PA0 (in), CN11_29 PH0 (in), CN11_30 PA1 (in), CN11_31 PH1 (in), CN11_32 PA4 (in), CN11_33 VBAT (in), CN11_34 PB0 (in), CN11_35 PC2 (in), CN11_36 PC1 (in), CN11_37 PC3 (in), CN11_38 PC0 (in), CN11_39 PD4 (in), CN11_40 PD3 (in), CN11_41 PD5 (in), CN11_42 PG2 (in), CN11_43 PD6 (in), CN11_44 PG3 (in), CN11_45 PD7 (in), CN11_46 PE2 (in), CN11_47 PE3 (in), CN11_48 PE4 (in), CN11_49 GND (in), CN11_50 PE5 (in), CN11_51 PF1 (in), CN11_52 PF2 (in), CN11_53 PF0 (in), CN11_54 PF8 (in), CN11_55 PD1 (in), CN11_56 PF9 (in), CN11_57 PD0 (in), CN11_58 PG1 (in), CN11_59 PG0 (in), CN11_60 GND (in), CN11_61 PE1 (in), CN11_62 PE6 (in), CN11_63 PG9 (in), CN11_64 PG15 (in), CN11_65 PG12 (in), CN11_66 PG10 (in), CN11_67 NC (in), CN11_68 PG13 (in), CN11_69 PD9 (in), CN11_70 PG11 (in), CN12_1 PC9 (in), CN12_2 PC8 (in), CN12_3 PB8 (in), CN12_4 PC6 (in), CN12_5 PB9 (in), CN12_6 PC5 (in), CN12_7 AVDD (in), CN12_8 U5V (in), CN12_9 GND (in), CN12_10 PD8 (in), CN12_11 PA5 (in), CN12_12 PA12 (in), CN12_13 PA6 (in), CN12_14 PA11 (in), CN12_15 PA7 (in), CN12_16 PB12 (in), CN12_17 PB6 (in), CN12_18 PB11 (in), CN12_19 PC7 (in), CN12_20 GND (in), CN12_21 PA9 (in), CN12_22 PB2 (in), CN12_23 PA8 (in), CN12_24 PB1 (in), CN12_25 PB10 (in), CN12_26 PB15 (in), CN12_27 PB4 (in), CN12_28 PB14 (in), CN12_29 PB5 (in), CN12_30 PB13 (in), CN12_31 PB3 (in), CN12_32 AGND (in), CN12_33 PA10 (in), CN12_34 PC4 (in), CN12_35 PA2 (in), CN12_36 PF5 (in), CN12_37 PA3 (in), CN12_38 PF4 (in), CN12_39 GND (in), CN12_40 PE8 (in), CN12_41 PD13 (in), CN12_42 PF10 (in), CN12_43 PD12 (in), CN12_44 PE7 (in), CN12_45 PD11 (in), CN12_46 PD14 (in), CN12_47 PE10 (in), CN12_48 PD15 (in), CN12_49 PE12 (in), CN12_50 PF14 (in), CN12_51 PE14 (in), CN12_52 PE9 (in), CN12_53 PE15 (in), CN12_54 GND (in), CN12_55 PE13 (in), CN12_56 PE11 (in), CN12_57 PF13 (in), CN12_58 PF3 (in), CN12_59 PF12 (in), CN12_60 PF15 (in), CN12_61 PG14 (in), CN12_62 PF11 (in), CN12_63 GND (in), CN12_64 PE0 (in), CN12_65 PD10 (in), CN12_66 PG8 (in), CN12_67 PG7 (in), CN12_68 PG5 (in), CN12_69 PG4 (in), CN12_70 PG6 (in)

## SRR1280-33OM
designator L?
Inductor Power Shielded Wirewound 33uH 20% 1KHz 28Q-Factor Ferrite 3.5A 0.057Ohm DCR T/R; Manufacturer: Bourns; Manufacturer Part Number: SRR1280-330M; Material: Steel; DC Resistance (DCR): 57mR; Saturation Current: 3.3A; Test Frequency: 100kHz; Self Resonant Frequency: 9.5MHz; Q Factor: 28; Supplier 1: Mouser; RoHS: Yes; Category: Fixed Inductors; Stock 1: 6101; Pricing 1: 1=1,36000, 10=1,02000, 50=1,02000, 100=0,91300, 1000=0,81600, 10000=0,81600 (USD); Mount: Surface Mount; Case/Package: Nonstandard; Number of Pins: 2; Core Material: Ferrite; Min Operating Temperature: -40°C; Max Operating Temperature: 125°C; Package Quantity: 400; Tolerance: 20%; Packaging: Tape and Reel; Inductance: 33uH; Max DC Current: 3.5A; Current Rating: 3.5A; Shielding: Shielded; Resistor Type: Wirewound; Termination: SMD/SMT; Series: SRR1280; DC Current: 3.5A; Inductance Tolerance: 20%; RMS Current (Irms): 3.5A; Resistance: 57MR; Frequency: 9.5MHz; Sample Rate (Hz): 100kHz; Length: 12.5mm; Width: 12.5mm; Height: 7.5mm; Depth: 12.8mm; Height - Seated (Max): 0.315inch; Radiation Hardening: No; Military Standard: Not; RoHS Compliant: Yes; REACH SVHC: No SVHC; ComponentLink1URL: https://datasheet.ciiva.com/11799/0900766b80ddd400-11799870.pdf?src-supplier=RSComponents; ComponentLink1Description: https://datasheet.ciiva.com/11799/0900766b80ddd400-11799870.pdf?src-supplier=RSComponents; ComponentLink2URL: https://datasheet.ciiva.com/17112/70277071-17112985.pdf?src-supplier=Allied+Electronics; ComponentLink2Description: https://datasheet.ciiva.com/17112/70277071-17112985.pdf?src-supplier=Allied+Electronics; ComponentLink3URL: https://datasheet.ciiva.com/8512/srr1280-8512893.pdf?src-supplier=Avnet; ComponentLink3Description: https://datasheet.ciiva.com/8512/srr1280-8512893.pdf?src-supplier=Avnet; ComponentLink4URL: https://datasheet.ciiva.com/6696/srr1280-6696735.pdf?src-supplier=Digi-Key; ComponentLink4Description: https://datasheet.ciiva.com/6696/srr1280-6696735.pdf?src-supplier=Digi-Key; ComponentLink5URL: https://datasheet.ciiva.com/17285/srr1280-17285215.pdf?src-supplier=Avnet+Europe; ComponentLink5Description: https://datasheet.ciiva.com/17285/srr1280-17285215.pdf?src-supplier=Avnet+Europe; ComponentLink6URL: https://datasheet.ciiva.com/30162/srr1280-30162751.pdf?src-supplier=Onlinecomponents.com; ComponentLink6Description: https://datasheet.ciiva.com/30162/srr1280-30162751.pdf?src-supplier=Onlinecomponents.com; ComponentLink7URL: https://datasheet.ciiva.com/48488/srr1280-48488287.pdf?src-supplier=Avnet; ComponentLink7Description: https://datasheet.ciiva.com/48488/srr1280-48488287.pdf?src-supplier=Avnet; Supplier Part Number 1: 652-SRR1280-330M
footprint SRR1280-33OM
pins: 1, 2

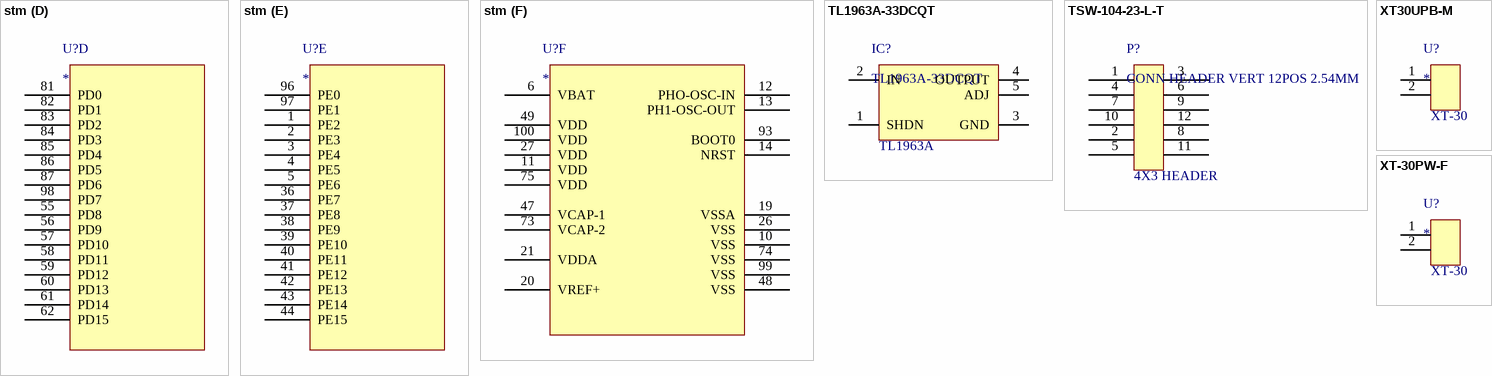
[diagram p2: symbols stm to XT-30PW-F]

## stm
designator U?
footprint DevEBox-STM32H743VIT6
part A pins: 22 PA0, 23 PA1, 24 PA2, 25 PA3, 28 PA4, 29 PA5, 30 PA7, 50 PA6, 67 PA8, 68 PA9, 69 PA10, 70 PA11, 71 PA12, 72 PA13, 76 PA14, 77 PA15
part B pins: 33 PB0, 34 PB1, 35 PB2, 45 PB10, 46 PB11, 51 PB12, 52 PB13, 53 PB14, 54 PB15, 88 PB3, 89 PB4, 90 PB5, 91 PB6, 92 PB7, 94 PB8, 95 PB9
part C pins: 7 PC13, 8 PC14-OSC32-IN, 9 PC15-OSC32-OUT, 15 PC0, 16 PC1, 17 PC2, 18 PC3, 31 PC4, 32 PC5, 63 PC6, 64 PC7, 65 PC8, 66 PC9, 78 PC10, 79 PC11, 80 PC12
part D pins: 55 PD8, 56 PD9, 57 PD10, 58 PD11, 59 PD12, 60 PD13, 61 PD14, 62 PD15, 81 PD0, 82 PD1, 83 PD2, 84 PD3, 85 PD4, 86 PD5, 87 PD6, 98 PD7
part E pins: 1 PE2, 2 PE3, 3 PE4, 4 PE5, 5 PE6, 36 PE7, 37 PE8, 38 PE9, 39 PE10, 40 PE11, 41 PE12, 42 PE13, 43 PE14, 44 PE15, 96 PE0, 97 PE1
part F pins: 6 VBAT, 10 VSS, 11 VDD, 12 PHO-OSC-IN, 13 PH1-OSC-OUT, 14 NRST, 19 VSSA, 20 VREF+, 21 VDDA, 26 VSS, 27 VDD, 47 VCAP-1, 48 VSS, 49 VDD, 73 VCAP-2, 74 VSS, 75 VDD, 93 BOOT0, 99 VSS, 100 VDD

## TL1963A-33DCQT
designator IC?
LDO Regulator Pos 3.3V 1.5A 6-Pin(5+Tab) SOT-223 T/R; Manufacturer: STMicroelectronics; Manufacturer Part Number: L7805CDT-TR; Number of Outputs: 1; Max Input Voltage: 35V; Output Voltage: 5V; Polarity: Positive; Quiescent Current: 8mA; Output Type: Fixed; Dropout Voltage: 2V; Min Input Voltage: 7V; Power Supply Rejection Ratio (PSRR): 62dB; Min Current Limit: 1.6A; Accuracy: 3%; Supplier 1: Farnell; RoHS: Yes; Category: Voltage Regulators - Linear; Stock 1: 35391; Pricing 1: 1=1,28000, 10=1,01000, 100=0,69900, 500=0,59500 (EUR); Mount: Surface Mount; Case/Package: TO-252; Number of Pins: 3; Contact Plating: Tin,Matte; Min Operating Temperature: 0°C; Max Operating Temperature: 125°C; Max Output Current: 1.5A; Package Quantity: 1; Packaging: Tape and Reel; Output Current: 1.5A; Number of Regulators: 1; Min Output Voltage: 5V; Series: -; Length: 6.6mm; Width: 6.2mm; Height: 2.4mm; Radiation Hardening: No; Lead Free: Lead Free; RoHS Compliant: Yes; ComponentLink1URL: https://datasheet.ciiva.com/26904/l7805cdt-tr-26904768.pdf?src-supplier=IIIC; ComponentLink1Description: https://datasheet.ciiva.com/26904/l7805cdt-tr-26904768.pdf?src-supplier=IIIC; ComponentLink2URL: https://datasheet.ciiva.com/2042/cd00000444-2042784.pdf?src-supplier=Digi-Key; ComponentLink2Description: https://datasheet.ciiva.com/2042/cd00000444-2042784.pdf?src-supplier=Digi-Key; ComponentLink3URL: https://datasheet.ciiva.com/2042/cd00000444-2042783.pdf?src-supplier=Digi-Key; ComponentLink3Description: https://datasheet.ciiva.com/2042/cd00000444-2042783.pdf?src-supplier=Digi-Key; ComponentLink4URL: https://datasheet.ciiva.com/2042/cd00000444-2042785.pdf?src-supplier=Digi-Key; ComponentLink4Description: https://datasheet.ciiva.com/2042/cd00000444-2042785.pdf?src-supplier=Digi-Key; ComponentLink5URL: https://datasheet.ciiva.com/4882/cd00000444-4882231.pdf?src-supplier=Mouser; ComponentLink5Description: https://datasheet.ciiva.com/4882/cd00000444-4882231.pdf?src-supplier=Mouser; ComponentLink6URL: https://datasheet.ciiva.com/16357/cd00000444-16357893.pdf?src-supplier=Future+Electronics; ComponentLink6Description: https://datasheet.ciiva.com/16357/cd00000444-16357893.pdf?src-supplier=Future+Electronics; ComponentLink7URL: https://datasheet.ciiva.com/17360/cd00000444-17360220.pdf?src-supplier=Avnet+Europe; ComponentLink7Description: https://datasheet.ciiva.com/17360/cd00000444-17360220.pdf?src-supplier=Avnet+Europe; Supplier Part Number 1: 2849717; Supplier 2: Arrow Electronics; Stock 2: 250; Pricing 2: 1=4,00200, 10=3,60280, 25=3,40320, 100=3,00400, 250=2,80440, 500=2,53490, 1000=2,33530, 250=2,50200, 500=2,32700, 1000=2,11400 (USD); Max Output Voltage: 3.3V; ComponentLink8URL: https://datasheet.ciiva.com/14279/tl1963a-33-14279286.pdf?src-supplier=Avnet; ComponentLink8Description: https://datasheet.ciiva.com/14279/tl1963a-33-14279286.pdf?src-supplier=Avnet; ComponentLink9URL: https://datasheet.ciiva.com/6591/tl1963a-6591431.pdf?src-supplier=Digi-Key; ComponentLink9Description: https://datasheet.ciiva.com/6591/tl1963a-6591431.pdf?src-supplier=Digi-Key; ComponentLink10URL: https://datasheet.ciiva.com/26176/tl1963a-25-26176573.pdf?src-supplier=Avnet+Europe; ComponentLink10Description: https://datasheet.ciiva.com/26176/tl1963a-25-26176573.pdf?src-supplier=Avnet+Europe; ComponentLink11URL: https://datasheet.ciiva.com/6591/tl1963a-6591406.pdf?src-supplier=Digi-Key; ComponentLink11Description: https://datasheet.ciiva.com/6591/tl1963a-6591406.pdf?src-supplier=Digi-Key; ComponentLink12URL: https://datasheet.ciiva.com/6591/tl1963a-6591407.pdf?src-supplier=Digi-Key; ComponentLink12Description: https://datasheet.ciiva.com/6591/tl1963a-6591407.pdf?src-supplier=Digi-Key; Supplier Part Number 2: TL1963A-33DCQT
footprint TL1963A-33DCQT
pins: 1 SHDN, 2 IN, 3 GND, 4 OUTPUT, 5 ADJ
text: TL1963A

## TSW-104-23-L-T
designator P?, comment CONN HEADER VERT 12POS 2.54MM
footprint TSW-104-23-L-T (CONN HEADER VERT 12POS 2.54MM)
pins: 1, 2, 3, 4, 5, 6, 7, 8, 9, 10, 11, 12
text: 4X3 HEADER

## XT30UPB-M
designator U?
footprint XT30UPB-M (CONNECTOR)
pins: 1, 2
text: XT-30

## XT-30PW-F
designator U?
footprint XT-30PW-F
pins: 1, 2
text: XT-30